# Altium footprint library PcbLib_RomanK.PcbLib: 21 footprints (part 1 of 2)
Each footprint in its own frame and in the unit in brackets; x right, y up, seen from the top. Pads: shape width x height; smd on the part's side, far side on the other; paste and mask are expansions set on the pad; w line width, h text height; cw(c..) or ccw(c..) is an arc to the next point about the centre after c.
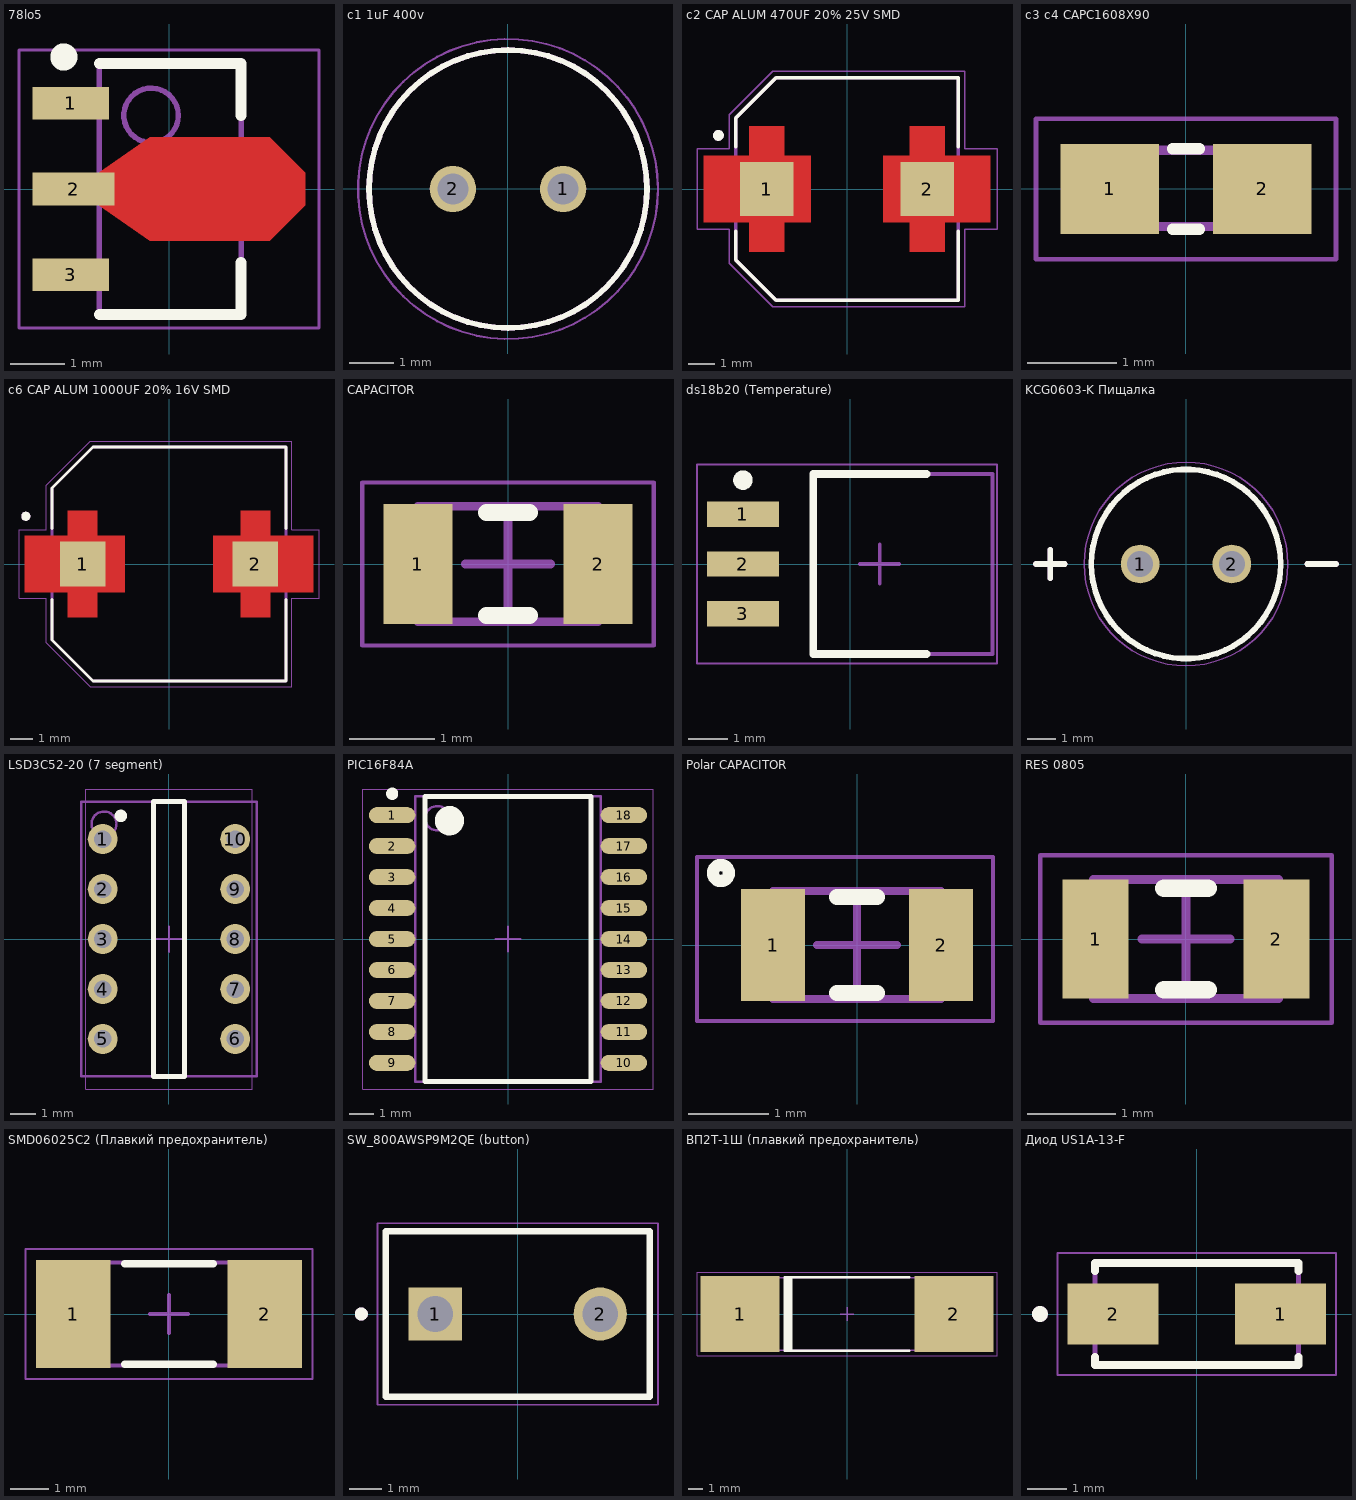
[diagram p0: the footprints below, top view; thin cyan lines are the x and y axes]

## 78lo5 [mm] "SOT89, 3-Leads, Body 4,50x2,45mm, Pitch 1,57mm, Lead Span 4,1mm, IPC Medium Density"
height 1.6
pads (3):
  rect 1.4x0.6 smd: 1(-1.8,1.57) 3(-1.8,-1.57)
  rect 1.5x0.6 smd: 2(-1.75,0)
Top Layer:
  region: -1.5,0.154 -0.35,0.95 1.85,0.95 2.5,0.3 2.5,-0.3 1.85,-0.95 -0.35,-0.95 -1.5,-0.154
Top Overlay:
  circle w0.25: c-1.928,2.42 r0.125
  lines w0.2: -1.278,-2.3 1.322,-2.3 1.322,-1.35 ; -1.278,2.3 1.322,2.3 1.322,1.35
Mechanical 13:
  circle w0.1: c-0.328,1.35 r0.5
  lines w0.1: -1.278,-2.3 -1.278,2.3 1.322,2.3 1.322,-2.3 -1.278,-2.3
Mechanical 15:
  lines w0.05: -2.75,-2.55 -2.75,2.55 2.75,2.55 2.75,-2.55 -2.75,-2.55
  lines w0.1: -0.478,0 0.522,0 ; 0.022,-0.5 0.022,0.5
3D body: height 1.6, standoff 0, extent -1.278,-2.3 1.322,2.3

## c1 1uF 400v [mm] "ECAP (К50-35), 1мкФ, 400В, 105°C, 20%, 6x12мм"
pads (2):
  round 1.05 hole 0.7: 1(1.25,0) 2(-1.25,0)
Top Overlay:
  circle w0.127: c0,0 r3.15
Mechanical 13:
  circle w0.127: c0,0 r3.15
Mechanical 15:
  circle w0.05: c0,0 r3.4
3D body "UVY2G010MED1TD.STEP": height 12.51, standoff -18.99, extent -3.14,-3.143 3.15,3.143

## c2 CAP ALUM 470UF 20% 25V SMD [mm]
pads (2):
  rect 2x2 smd paste-2 mask+0: 1(-3,0) 2(3,0)
Top Layer:
  region: -2.35,1.25 -1.35,1.25 -1.35,-1.25 -2.35,-1.25 -2.35,-2.35 -3.65,-2.35 -3.65,-1.25 -5.35,-1.25 -5.35,1.25 -3.65,1.25 -3.65,2.35 -2.35,2.35
  region: 3.65,1.25 5.35,1.25 5.35,-1.25 3.65,-1.25 3.65,-2.35 2.35,-2.35 2.35,-1.25 1.35,-1.25 1.35,1.25 2.35,1.25 2.35,2.35 3.65,2.35
Top Overlay:
  circle w0.2: c-4.8,2 r0.1
  lines w0.127: -4.15,-1.57 -4.15,-2.65 -2.65,-4.15 4.15,-4.15 4.15,-1.57 ; -4.15,1.57 -4.15,2.65 -2.65,4.15 4.15,4.15 4.15,1.57
Top Paste:
  region: -2.35,1.25 -1.35,1.25 -1.35,-1.25 -2.35,-1.25 -2.35,-2.35 -3.65,-2.35 -3.65,-1.25 -5.35,-1.25 -5.35,1.25 -3.65,1.25 -3.65,2.35 -2.35,2.35
  region: 3.65,1.25 5.35,1.25 5.35,-1.25 3.65,-1.25 3.65,-2.35 2.35,-2.35 2.35,-1.25 1.35,-1.25 1.35,1.25 2.35,1.25 2.35,2.35 3.65,2.35
Top Solder:
  region: -2.25,1.35 -1.25,1.35 -1.25,-1.35 -2.25,-1.35 -2.25,-2.45 -3.75,-2.45 -3.75,-1.35 -5.45,-1.35 -5.45,1.35 -3.75,1.35 -3.75,2.45 -2.25,2.45
  region: 3.75,1.35 5.45,1.35 5.45,-1.35 3.75,-1.35 3.75,-2.45 2.25,-2.45 2.25,-1.35 1.25,-1.35 1.25,1.35 2.25,1.35 2.25,2.45 3.75,2.45
Mechanical 13:
  circle w0.2: c-4.8,2 r0.1
  lines w0.127: -4.15,-2.65 -4.15,2.65 -2.65,4.15 4.15,4.15 4.15,-4.15 -2.65,-4.15 -4.15,-2.65
Mechanical 15:
  lines w0.05: -5.6,-1.5 -4.4,-1.5 -4.4,-2.775 -2.775,-4.4 4.4,-4.4 4.4,-1.5 5.6,-1.5 5.6,1.5 4.4,1.5 4.4,4.4 -2.775,4.4 -4.4,2.775 -4.4,1.5 -5.6,1.5 -5.6,-1.5
3D body "step_temp.STEP": height 10.5, standoff 0, extent -4.85,-4.15 4.85,4.15

## c3 c4 CAPC1608X90 [mm] "22 µF Molded Tantalum Capacitors 5 V 0603 (1608 Metric) 7.5Ohm"
pads (2):
  rect 1.1x1 smd: 1(-0.85,0) 2(0.85,0)
Top Overlay:
  lines w0.127: -0.15,-0.45 0.15,-0.45 ; -0.15,0.45 0.15,0.45
Mechanical 13:
  region: -0.338,-0.47 -0.839,-0.47 -0.839,0.48 -0.338,0.48
  region: 0.83,-0.471 0.331,-0.471 0.331,0.48 0.83,0.48
  lines w0.102: -0.356,-0.419 0.356,-0.419 ; -0.356,0.432 0.356,0.432
Mechanical 15:
  lines w0.051: -1.673,-0.783 1.673,-0.783 1.673,0.783 -1.673,0.783 -1.673,-0.783
3D body "TACL226M005RTA.STEP": height 0.85, standoff 0, extent -0.75,-0.5 0.85,0.5

## c6 CAP ALUM 1000UF 20% 16V SMD [mm]
pads (2):
  rect 2x2 smd paste-2 mask+0: 1(-3.8,0) 2(3.8,0)
Top Layer:
  region: 4.45,1.25 6.35,1.25 6.35,-1.25 4.45,-1.25 4.45,-2.35 3.15,-2.35 3.15,-1.25 1.95,-1.25 1.95,1.25 3.15,1.25 3.15,2.35 4.45,2.35
  region: -3.15,1.25 -1.95,1.25 -1.95,-1.25 -3.15,-1.25 -3.15,-2.35 -4.45,-2.35 -4.45,-1.25 -6.35,-1.25 -6.35,1.25 -4.45,1.25 -4.45,2.35 -3.15,2.35
Top Overlay:
  circle w0.2: c-6.3,2.1 r0.1
  lines w0.127: -5.15,-1.57 -5.15,-3.35 -3.35,-5.15 5.15,-5.15 5.15,-1.57 ; -5.15,1.57 -5.15,3.35 -3.35,5.15 5.15,5.15 5.15,1.57
Top Paste:
  region: 4.45,1.25 6.35,1.25 6.35,-1.25 4.45,-1.25 4.45,-2.35 3.15,-2.35 3.15,-1.25 1.95,-1.25 1.95,1.25 3.15,1.25 3.15,2.35 4.45,2.35
  region: -3.15,1.25 -1.95,1.25 -1.95,-1.25 -3.15,-1.25 -3.15,-2.35 -4.45,-2.35 -4.45,-1.25 -6.35,-1.25 -6.35,1.25 -4.45,1.25 -4.45,2.35 -3.15,2.35
Top Solder:
  region: 4.55,1.35 6.45,1.35 6.45,-1.35 4.55,-1.35 4.55,-2.45 3.05,-2.45 3.05,-1.35 1.85,-1.35 1.85,1.35 3.05,1.35 3.05,2.45 4.55,2.45
  region: -3.05,1.35 -1.85,1.35 -1.85,-1.35 -3.05,-1.35 -3.05,-2.45 -4.55,-2.45 -4.55,-1.35 -6.45,-1.35 -6.45,1.35 -4.55,1.35 -4.55,2.45 -3.05,2.45
Mechanical 13:
  circle w0.2: c-6.3,2.1 r0.1
  lines w0.127: -5.15,-3.35 -3.35,-5.15 5.15,-5.15 5.15,5.15 -3.35,5.15 -5.15,3.35 -5.15,-3.35
Mechanical 15:
  lines w0.05: -6.6,-1.5 -6.6,1.5 -5.4,1.5 -5.4,3.475 -3.475,5.4 5.4,5.4 5.4,1.5 6.6,1.5 6.6,-1.5 5.4,-1.5 5.4,-5.4 -3.475,-5.4 -5.4,-3.475 -5.4,-1.5 -6.6,-1.5
3D body "step_temp.STEP": height 10.51, standoff 0.01, extent -5.85,-5.15 5.85,5.15

## CAPACITOR [mm] "Chip Capacitor, 2-Leads, Body 2,00x1,25mm, IPC Medium Density"
height 0.45
pads (2):
  rect 0.8x1.4 smd: 1(-1.05,0) 2(1.05,0)
Top Overlay:
  lines w0.2: -0.25,-0.6 0.25,-0.6 ; -0.25,0.6 0.25,0.6
Mechanical 13:
  lines w0.1: -1.05,-0.675 -1.05,0.675 1.05,0.675 1.05,-0.675 -1.05,-0.675
Mechanical 15:
  lines w0.05: -1.7,-0.95 -1.7,0.95 1.7,0.95 1.7,-0.95 -1.7,-0.95
  lines w0.1: -0.5,0 0.5,0 ; 0,-0.5 0,0.5
3D body "CAPC2012X04N.step": height 0.45, standoff 0, extent -1.05,-0.675 1.05,0.675

## ds18b20 (Temperature) [mm]
height 3.68
pads (3):
  rect 1.85x0.65 smd: 1(-2.75,1.27) 2(-2.75,0) 3(-2.75,-1.27)
Top Overlay:
  circle w0.25: c-2.75,2.145 r0.125
  lines w0.2: 1.95,-2.3 -0.95,-2.3 -0.95,2.3 1.95,2.3
Mechanical 13:
  lines w0.1: -0.95,-2.3 -0.95,2.3 3.63,2.3 3.63,-2.3 -0.95,-2.3
Mechanical 15:
  lines w0.05: -3.925,-2.55 -3.925,2.55 3.75,2.55 3.75,-2.55 -3.925,-2.55
  lines w0.1: 0.25,0 1.25,0 ; 0.75,-0.5 0.75,0.5
3D body: height 3.68, standoff 0, extent -0.95,-2.3 3.63,2.3

## KCG0603-K Пищалка [mm]
pads (2):
  round 1.35 hole 0.9: 1(-1.6,0) 2(1.6,0)
Top Overlay:
  circle w0.127: c0,0 r3.3
  circle w0.2: c0,0 r3.3
  lines w0.2: -5.23,0 -4.23,0 ; -4.73,-0.5 -4.73,0.5 ; 4.23,0 5.23,0
Mechanical 13:
  lines w0.2: -5.23,0 -4.23,0 ; -4.73,-0.5 -4.73,0.5 ; 4.23,0 5.23,0
Mechanical 15:
  circle w0.05: c0,0 r3.55
3D body "step_temp.STEP": height 3.41, standoff -3.39, extent -3.3,-3.3 3.3,3.3

## LSD3C52-20 (7 segment) [mm]
height 6
pads (10):
  round 1.2 hole 0.7: 1(-2.65,4) 2(-2.65,2) 3(-2.65,0) 4(-2.65,-2) 5(-2.65,-4) 6(2.65,-4) 7(2.65,-2) 8(2.65,0) 9(2.65,2) 10(2.65,4)
Top Overlay:
  circle w0.25: c-1.925,4.925 r0.125
  lines w0.2: -0.625,-5.5 0.625,-5.5 0.625,5.5 -0.625,5.5 -0.625,-5.5
Mechanical 13:
  circle w0.1: c-2.6,4.6 r0.5
  lines w0.1: -3.5,-5.5 3.5,-5.5 3.5,5.5 -3.5,5.5 -3.5,-5.5
Mechanical 15:
  lines w0.05: -3.325,-6 3.325,-6 3.325,6 -3.325,6 -3.325,-6
  lines w0.1: -0.5,0 0.5,0 ; 0,-0.5 0,0.5
3D body: height 6, standoff 1, extent -3.5,-5.5 3.5,5.5

## PIC16F84A [mm] "SOIC, 18-Leads, Body 11,53x7,49mm, Pitch 1,27mm, IPC Medium Density"
height 2.64
pads (18):
  oval 1.9x0.65 smd: 1(-4.75,5.08) 2(-4.75,3.81) 3(-4.75,2.54) 4(-4.75,1.27) 5(-4.75,0) 6(-4.75,-1.27) 7(-4.75,-2.54) 8(-4.75,-3.81) 9(-4.75,-5.08) 10(4.75,-5.08) 11(4.75,-3.81) 12(4.75,-2.54) 13(4.75,-1.27) 14(4.75,0) 15(4.75,1.27) 16(4.75,2.54) 17(4.75,3.81) 18(4.75,5.08)
Top Overlay:
  circle w0.25: c-4.75,5.955 r0.125
  circle w0.6: c-2.4,4.85 r0.3
  lines w0.2: -3.4,-5.85 -3.4,5.85 3.4,5.85 3.4,-5.85 -3.4,-5.85
Mechanical 13:
  circle w0.1: c-2.9,4.95 r0.5
  lines w0.1: -3.8,-5.85 -3.8,5.85 3.8,5.85 3.8,-5.85 -3.8,-5.85
Mechanical 15:
  lines w0.05: -5.95,-6.15 -5.95,6.15 5.95,6.15 5.95,-6.15 -5.95,-6.15
  lines w0.1: -0.5,0 0.5,0 ; 0,-0.5 0,0.5
3D body: height 2.64, standoff 0.1, extent -3.8,-5.85 3.8,5.85

## Polar CAPACITOR [mm] "Chip Capacitor, 2-Leads, Body 2,00x1,25mm, IPC Medium Density"
height 0.45
pads (2):
  rect 0.8x1.4 smd: 1(-1.05,0) 2(1.05,0)
Top Overlay:
  circle w0.154: c-1.7,0.9 r0.1
  lines w0.2: -0.25,-0.6 0.25,-0.6 ; -0.25,0.6 0.25,0.6
Mechanical 13:
  lines w0.1: -1.05,-0.675 -1.05,0.675 1.05,0.675 1.05,-0.675 -1.05,-0.675
Mechanical 15:
  lines w0.05: -2,-0.95 -2,1.1 1.7,1.1 1.7,-0.95 -2,-0.95
  lines w0.1: -0.5,0 0.5,0 ; 0,-0.5 0,0.5
3D body "CAPC2012X04N.step": height 0.45, standoff 0, extent -1.05,-0.675 1.05,0.675

## RES 0805 [mm] "Chip Resistor, 2-Leads, Body 2,00x1,25mm, IPC Medium Density"
height 0.45
pads (2):
  rect 0.75x1.35 smd: 1(-1.025,0) 2(1.025,0)
Top Overlay:
  lines w0.2: -0.25,-0.575 0.25,-0.575 ; -0.25,0.575 0.25,0.575
Mechanical 13:
  lines w0.1: -1.05,-0.675 -1.05,0.675 1.05,0.675 1.05,-0.675 -1.05,-0.675
Mechanical 15:
  lines w0.05: -1.65,-0.95 -1.65,0.95 1.65,0.95 1.65,-0.95 -1.65,-0.95
  lines w0.1: -0.5,0 0.5,0 ; 0,-0.5 0,0.5
3D body "RESC2012X04N.step": height 0.45, standoff 0, extent -1.05,-0.675 1.05,0.675

## SMD06025C2 (Плавкий предохранитель) [mm]
height 2.69
pads (2):
  rect 1.95x2.83 smd: 1(-2.505,0) 2(2.505,0)
Top Overlay:
  lines w0.2: -1.15,-1.315 1.15,-1.315 ; -1.15,1.315 1.15,1.315
Mechanical 13:
  lines w0.1: -3.05,-1.345 -3.05,1.345 3.05,1.345 3.05,-1.345 -3.05,-1.345
Mechanical 15:
  lines w0.05: -3.75,-1.7 -3.75,1.7 3.75,1.7 3.75,-1.7 -3.75,-1.7
  lines w0.1: -0.5,0 0.5,0 ; 0,-0.5 0,0.5
3D body: height 2.69, standoff 0, extent -1.6,-1.345 1.6,1.345
3D body: height 2.69, standoff 0, extent -3.05,-1.345 -1.6,1.345
3D body: height 2.69, standoff 0, extent 1.6,-1.345 3.05,1.345

## SW_800AWSP9M2QE (button) [mm]
height 18.85
pads (2):
  rect 1.635x1.635 / inner round 1.635 / far side rect 1.635x1.635 hole 1.1: 1(-2.54,0)
  round 1.635 hole 1.1: 2(2.54,0)
Top Overlay:
  circle w0.2: c-4.815,0 r0.1
  lines w0.2: -4.065,-2.54 -4.065,2.54 4.065,2.54 4.065,-2.54 -4.065,-2.54
Mechanical 13:
  circle w0.2: c-4.815,0 r0.1
  lines w0.127: -4.065,-2.54 4.065,-2.54 4.065,2.54 -4.065,2.54 -4.065,-2.54
Mechanical 15:
  lines w0.05: -4.315,-2.79 4.315,-2.79 4.315,2.79 -4.315,2.79 -4.315,-2.79
3D body "step_temp.STEP": height 18.85, standoff -3.3, extent -4.065,-2.543 4.065,2.54

## ВП2Т-1Ш (плавкий предохранитель) [mm] "MELF Diode, 2-Leads, Body 20,00x5,20mm, IPC Medium Density"
height 5.2
pads (2):
  rect 5.65x5.45 smd: 1(-7.65,0) 2(7.65,0)
Top Overlay:
  rectangle: -4.45,-2.625 -3.9,2.625
  lines w0.2: 4.45,-2.625 -4.45,-2.625 -4.45,2.625 4.45,2.625
Mechanical 13:
  lines w0.1: -10,-2.6 -10,2.6 10,2.6 10,-2.6 -10,-2.6
Mechanical 15:
  lines w0.05: -10.725,-2.975 -10.725,2.975 10.725,2.975 10.725,-2.975 -10.725,-2.975
  lines w0.1: -0.5,0 0.5,0 ; 0,-0.5 0,0.5
3D body: height 5.2, standoff 0, extent -10,-2.6 -5,2.6
3D body: height 5.19, standoff 0.04, extent -4.4,-2.571 -3.8,2.571
3D body: height 5.19, standoff 0.05, extent -5,-2.57 5,2.57
3D body: height 5.2, standoff 0, extent 5,-2.6 10,2.6

## Диод US1A-13-F [mm] "Diode Standard 50 V 1A Surface Mount SMA"
pads (2):
  rect 2.33x1.55 smd: 1(2.135,0) 2(-2.135,0)
Top Overlay:
  circle w0.2: c-4,0 r0.1
  lines w0.2: -2.598,-1.095 -2.598,-1.302 2.598,-1.302 2.598,-1.095 ; -2.598,1.095 -2.598,1.302 2.598,1.302 2.598,1.095
Mechanical 13:
  circle w0.2: c-4,0 r0.1
  lines w0.127: -2.598,-1.302 -2.598,1.302 2.598,1.302 2.598,-1.302 -2.598,-1.302
Mechanical 15:
  lines w0.05: -3.55,-1.552 -3.55,1.552 3.55,1.552 3.55,-1.552 -3.55,-1.552
3D body "US1A-13-F.STEP": height 2.41, standoff 0.01, extent -2.598,-1.302 2.598,1.302